# Altium footprint library Thruster Shield Part Library.PcbLib: 9 footprints
Each footprint in its own frame and in the unit in brackets; x right, y up, seen from the top. Pads: shape width x height; smd on the part's side, far side on the other; paste and mask are expansions set on the pad; w line width, h text height; cw(c..) or ccw(c..) is an arc to the next point about the centre after c.
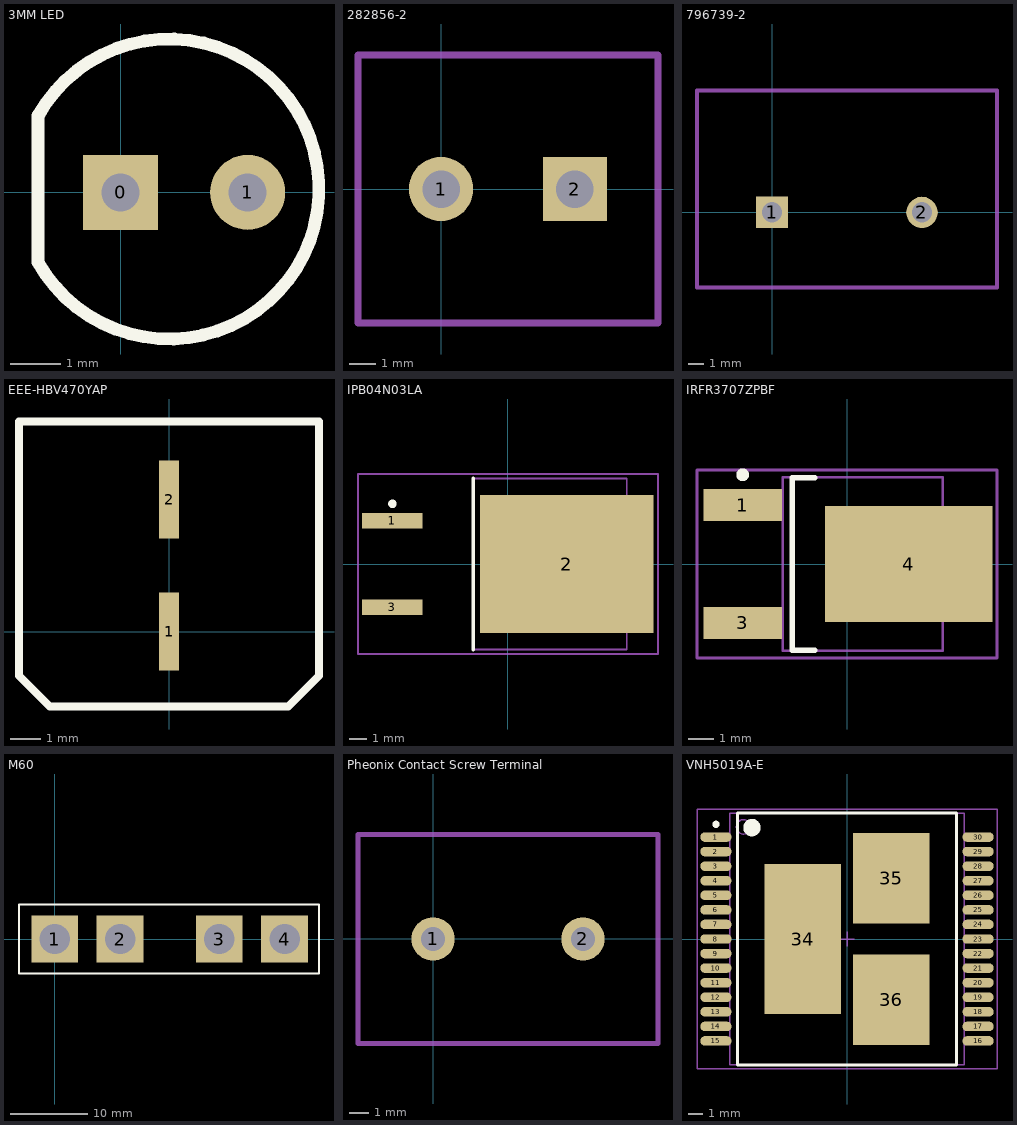
[diagram p0: the footprints below, top view; thin cyan lines are the x and y axes]

## 3MM LED [mm]
pads (2):
  rect 1.5x1.5 hole 0.762: 0(0,0)
  round 1.5 hole 0.762: 1(2.54,0)
Top Overlay:
  lines w0.254: -1.651,1.537 -1.651,-1.397 ccw(c0.967,0.068) -1.645,1.543

## 282856-2 [mm] "Screw Terminal  two pole"
height 19
pads (2):
  round 2.4 hole 1.4: 1(0,0)
  rect 2.4x2.4 hole 1.4: 2(5,0)
Mechanical 13:
  lines w0.254: -3.1,-5 8.1,-5 8.1,5 -3.1,5 -3.1,-5

## 796739-2 [mm] "796739-2 30Amp Screw Terminal block"
pads (2):
  rect 2x2 hole 1.3: 1(0,0)
  round 2 hole 1.3: 2(9.52,0)
Mechanical 1:
  lines w0.254: -4.76,-4.76 14.28,-4.76 14.28,7.74 -4.76,7.74 -4.76,-4.76

## EEE-HBV470YAP [mm] "Panasonic Aluminum Electrolytic Cap SMD"
height 5.8
pads (2):
  rect 0.65x2.6 smd: 1(0,0) 2(0,4.4)
Top Overlay:
  lines w0.254: -5,-1.477 -3.977,-2.5 -3,-2.5 3,-2.5 3.977,-2.5 5,-1.477 5,7 -5,7 -5,-1.477

## IPB04N03LA [mm] "Power-Transistor"
height 2.56
pads (3):
  rect 3.55x0.9 smd: 1(-6.8,2.54) 3(-6.8,-2.54)
  rect 10.2x8.1 smd: 2(3.45,0)
Top Overlay:
  circle w0.25: c-6.8,3.54 r0.125
  lines w0.2: -2.05,-5.05 -2.05,5.05
Mechanical 13:
  lines w0.1: -2,-5.025 6.98,-5.025 6.98,5.025 -2,5.025 -2,-5.025
Mechanical 15:
  lines w0.1: -0.5,0 0.5,0 ; 0,-0.5 0,0.5 ; -8.825,-5.3 8.825,-5.3 8.825,5.3 -8.825,5.3 -8.825,-5.3
3D body: height 2.56, standoff 0.47, extent -2,-5.025 6.98,5.025

## IRFR3707ZPBF [mm] "Power FET"
height 2.39
pads (3):
  rect 3.05x1.25 smd: 1(-4.05,2.29) 3(-4.05,-2.29)
  rect 6.5x4.5 smd: 4(2.4,0)
Top Overlay:
  circle w0.25: c-4.05,3.465 r0.125
  lines w0.2: -1.25,-3.35 -2.125,-3.35 -2.125,3.35 -1.25,3.35
Mechanical 13:
  lines w0.1: -2.5,-3.375 3.72,-3.375 3.72,3.375 -2.5,3.375 -2.5,-3.375
Mechanical 15:
  lines w0.1: -0.5,0 0.5,0 ; 0,-0.5 0,0.5 ; -5.825,-3.65 5.825,-3.65 5.825,3.65 -5.825,3.65 -5.825,-3.65
3D body: height 2.39, standoff 0.05, extent -2.5,-3.375 3.72,3.375

## M60 [mm] "Automotive Fuse Socket"
height 15
pads (4):
  rect 6x6 hole 3.9: 1(0,0) 2(8.4,0) 3(21.1,0) 4(29.5,0)
Top Overlay:
  lines w0.254: -4.572,-4.445 -4.572,4.445 33.909,4.445 33.909,-4.445 -4.572,-4.445

## Pheonix Contact Screw Terminal [mm]
height 18
pads (2):
  round 2.2 hole 1.2: 1(0,0) 2(7.61,0)
Mechanical 13:
  lines w0.254: -3.81,-5.3 -3.81,5.3 11.42,5.3 11.42,-5.3 -3.81,-5.3

## VNH5019A-E [mm] "STMicroelectronics VNH5019A-E H-Bridge"
height 2.35
pads (33):
  oval 2.15x0.65 smd: 1(-9,7) 2(-9,6) 3(-9,5) 4(-9,4) 5(-9,3) 6(-9,2) 7(-9,1) 8(-9,0) 9(-9,-1) 10(-9,-2) 11(-9,-3) 12(-9,-4) 13(-9,-5) 14(-9,-6) 15(-9,-7) 16(9,-7) 17(9,-6) 18(9,-5) 19(9,-4) 20(9,-3) 21(9,-2) 22(9,-1) 23(9,0) 24(9,1) 25(9,2) 26(9,3) 27(9,4) 28(9,5) 29(9,6) 30(9,7)
  rect 5.25x10.3 smd: 34(-3.05,0)
  rect 5.25x6.23 smd: 35(3.05,4.165) 36(3.05,-4.165)
Top Overlay:
  circle w0.6: c-6.525,7.65 r0.3
  circle w0.25: c-9,7.875 r0.125
  lines w0.2: -7.525,-8.65 7.525,-8.65 7.525,8.65 -7.525,8.65 -7.525,-8.65
Mechanical 13:
  circle w0.1: c-7.1,7.7 r0.5
  lines w0.1: -8.05,-8.65 8.05,-8.65 8.05,8.65 -8.05,8.65 -8.05,-8.65
Mechanical 15:
  lines w0.1: -0.5,0 0.5,0 ; 0,-0.5 0,0.5 ; -10.3,-8.9 10.3,-8.9 10.3,8.9 -10.3,8.9 -10.3,-8.9
3D body: height 2.35, standoff 0.35, extent -8.05,-8.65 8.05,8.65